# Altium schematic symbol library Term,Rcpt,7x2 Pin,2.00mm,Right,SMD.Schlib: 1 symbol
Pins are listed as number, name and electrical type; pins without a type are passive.

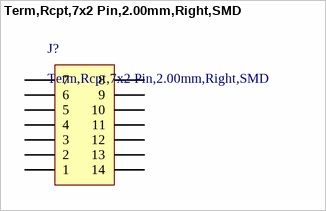
[diagram p0: symbol Term,Rcpt,7x2 Pin,2.00mm,Right,SMD]

## Term,Rcpt,7x2 Pin,2.00mm,Right,SMD
designator J?
14 Position Receptacle Connector 0.079" (2.00mm) Surface Mount, Right Angle Gold
pins: 1, 2, 3, 4, 5, 6, 7, 8, 9, 10, 11, 12, 13, 14